# EAGLE library part I__4506 (library ..SMD)
Dual expandable AND/OR/INVERT
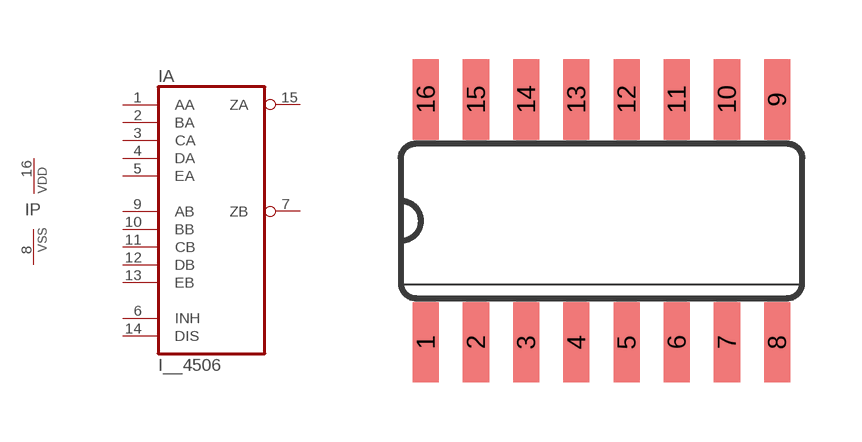
[diagram p96: symbol with the pads of SO16; footprint SO16]

Designator prefix I; gates A=4506 P=PWRN

## I__4506D  [SO16]
1  A:AA  in
2  A:BA  in
3  A:CA  in
4  A:DA  in
5  A:EA  in
6  A:INH  in
7  A:ZB  out
8  P:VSS  pwr
9  A:AB  in
10  A:BB  in
11  A:CB  in
12  A:DB  in
13  A:EB  in
14  A:DIS  in
15  A:ZA  out
16  P:VDD  pwr

## Footprint SO16 (pad centres in mm)
Small Outline Package 16
smd 0.66 x 2.032: 1 -4.445,-3.073; 2 -3.175,-3.073; 3 -1.905,-3.073; 4 -0.635,-3.073; 5 0.635,-3.073; 6 1.905,-3.073; 7 3.175,-3.073; 8 4.445,-3.073; 9 4.445,3.073; 10 3.175,3.073; 11 1.905,3.073; 12 0.635,3.073; 13 -0.635,3.073; 14 -1.905,3.073; 15 -3.175,3.073; 16 -4.445,3.073